# Altium schematic symbol library QUTMS_MOSFETLibrary.SchLib: 4 symbols
Pins are listed as number, name and electrical type; pins without a type are passive.

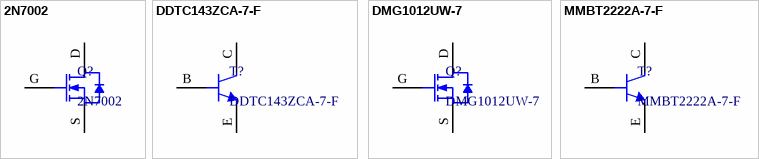
[diagram p0: symbols 2N7002 to MMBT2222A-7-F]

## 2N7002
designator Q?
footprint SOT23-3 (SOT23, 3-Leads, Body 2.90x2.45mm, Pitch 0.95mm, IPC Medium Density)
pins: D, G, S

## DDTC143ZCA-7-F
designator T?
ComponentLink1Description: Digikey; ComponentLink1URL: https://www.digikey.com.au/product-detail/en/diodes-incorporated/DDTC143ZCA-7-F/DDTC143ZCA-FDICT-ND/815626; ComponentLink2Description: Datasheet; ComponentLink2URL: https://www.diodes.com/assets/Datasheets/ds30330.pdf
footprint SOT23-3 - Transistor (SOT23, 3-Leads, Body 2.90x2.45mm, Pitch 0.95mm, IPC Medium Density)
pins: B, C, E

## DMG1012UW-7
designator Q?
N-Channel 20V 1A (Ta) 290mW (Ta) Surface Mount SOT-323
footprint SC-70
pins: D, G, S

## MMBT2222A-7-F
designator T?
Bipolar (BJT) Transistor NPN 40V 600mA 300MHz 310mW Surface Mount SOT-23-3; ComponentLink1Description: Digikey; ComponentLink1URL: https://www.digikey.com.au/product-detail/en/diodes-incorporated/DDTC143ZCA-7-F/DDTC143ZCA-FDICT-ND/815626; ComponentLink2Description: Datasheet; ComponentLink2URL: https://www.diodes.com/assets/Datasheets/ds30330.pdf
footprint SOT23-3 - Transistor (SOT23, 3-Leads, Body 2.90x2.45mm, Pitch 0.95mm, IPC Medium Density)
pins: B, C, E